# Altium integrated library NSC LDO.IntLib: 1202 symbols (part 16 of 27)
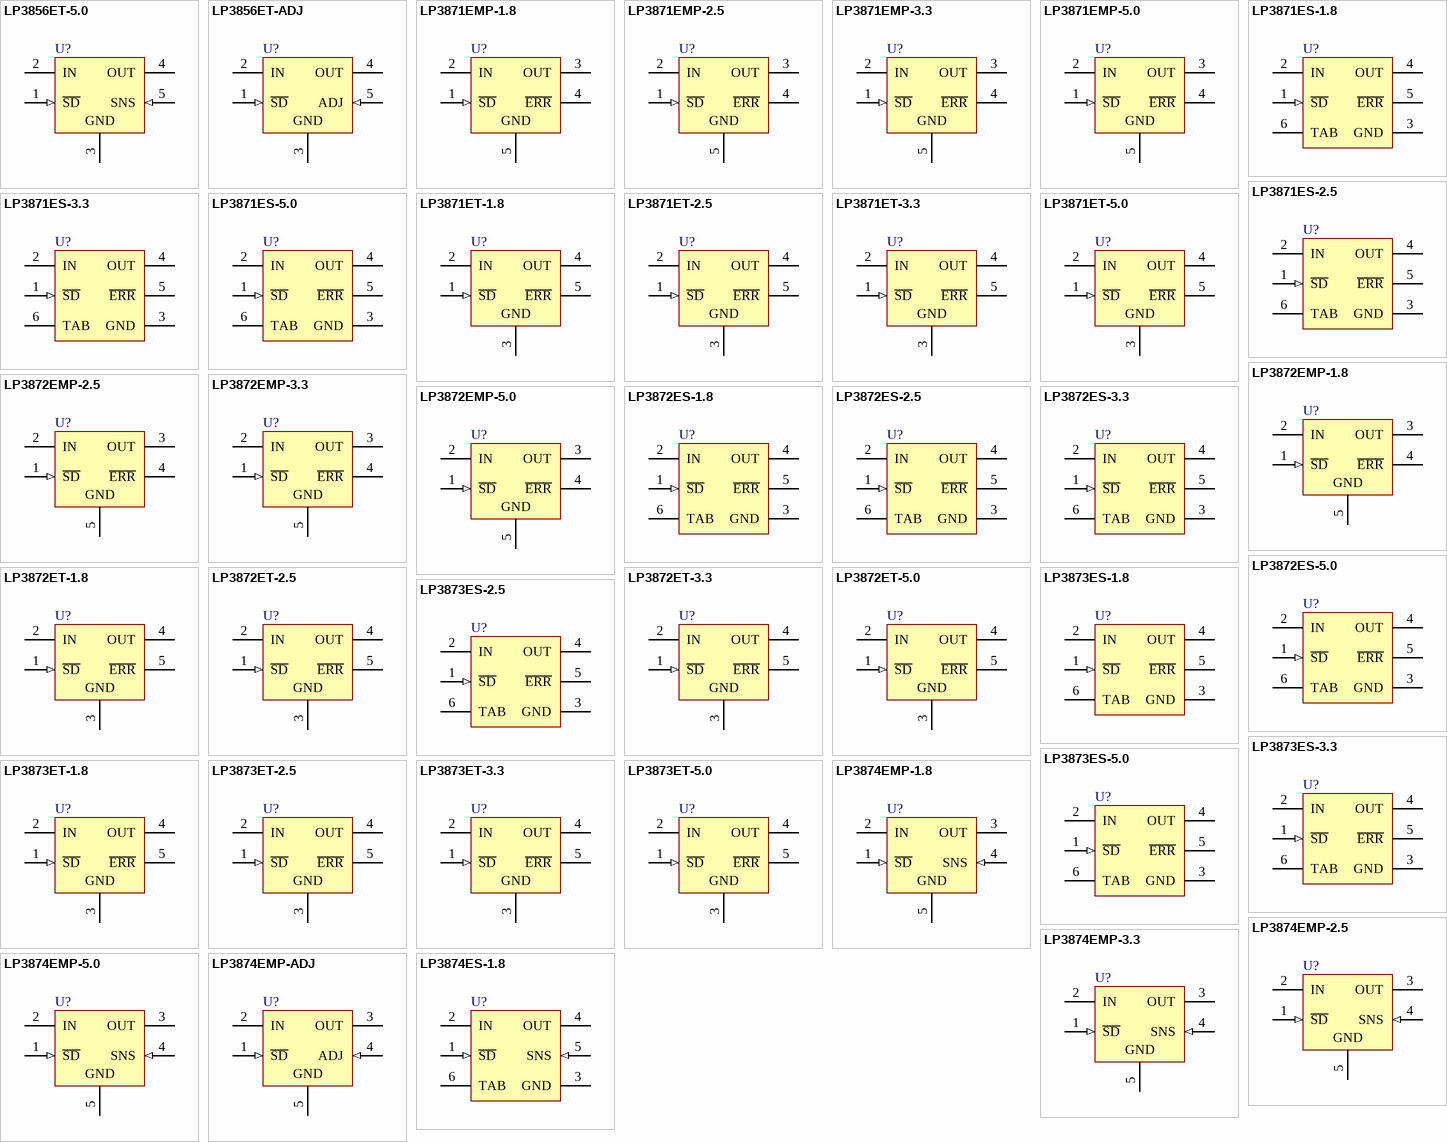
[diagram p45: symbols LP3856ET-5.0 to LP3874ES-1.8]

## LP3856ET-5.0
designator U?
3A Fast Ultra Low Dropout Linear Regulator; PartNumber: LP3856ET-5.0; Manufacturer: National Semiconductor; CompType: LDO IC; PackageTopMarking: NSUZXYTTE#*LP3856ET*-5.0; Published: 4-Dec-2008; DatasheetVersion: Sep-2006; PackageVersion: revA, Oct-1989; PackageReference: T05D; Publisher: Altium Limited; PackageDescription: TO-220, Molded, Stagger Bend, 5 Lead; RoHS: Y; PinCount: 5; DigiKeyPartNumber: LP3856ET-5.0-ND; ComponentLink1Description: LP3856 Datasheet; ComponentLink1URL: http://www.national.com/ds/LP/LP3856.pdf; ComponentLink2Description: LP3856 Web Page; ComponentLink2URL: http://www.national.com/pf/LP/LP3856.html; ComponentLink3Description: T05D Package Page; ComponentLink3URL: http://www.national.com/packaging/folders/t05d.html
footprint T05D (TO, Thru-Hole, Vertical, Heatsink Mounted; 5 Bent Staggered Leads; Pitch 1.7 mm)
pins: 1 ~{SD} (in), 2 IN (power), 3 GND (power), 4 OUT (power), 5 SNS (in)

## LP3856ET-ADJ
designator U?
3A Fast Ultra Low Dropout Linear Regulator; PartNumber: LP3856ET-ADJ; Manufacturer: National Semiconductor; CompType: LDO IC; PackageTopMarking: NSUZXYTTE#*LP3856ET*-ADJ; Published: 4-Dec-2008; DatasheetVersion: Sep-2006; PackageVersion: revA, Oct-1989; PackageReference: T05D; Publisher: Altium Limited; PackageDescription: TO-220, Molded, Stagger Bend, 5 Lead; RoHS: Y; PinCount: 5; DigiKeyPartNumber: LP3856ET-ADJ-ND; ComponentLink1Description: LP3856-ADJ Datasheet; ComponentLink1URL: http://www.national.com/ds/LP/LP3856-ADJ.pdf; ComponentLink2Description: LP3856-ADJ Web Page; ComponentLink2URL: http://www.national.com/pf/LP/LP3856-ADJ.html; ComponentLink3Description: T05D Package Page; ComponentLink3URL: http://www.national.com/packaging/folders/t05d.html
footprint T05D (TO, Thru-Hole, Vertical, Heatsink Mounted; 5 Bent Staggered Leads; Pitch 1.7 mm)
pins: 1 ~{SD} (in), 2 IN (power), 3 GND (power), 4 OUT (power), 5 ADJ (in)

## LP3871EMP-1.8
designator U?
0.8A Fast Ultra Low Dropout Linear Regulators; PartNumber: LP3871EMP-1.8; Manufacturer: National Semiconductor; CompType: LDO IC; PackageTopMarking: XYTT*LH6B; Published: 4-Dec-2008; DatasheetVersion: Sep-2006; PackageVersion: revA, Jan-2000; PackageReference: MP05A; Publisher: Altium Limited; PackageDescription: Moldec SOT-223, 6.50 x 3.56 x 1.6mm Body, 5 Lead, 1.5mm Pitch; RoHS: Y; PinCount: 5; DigiKeyPartNumber: LP3871EMP-1.8CT-ND; Code_JEDEC: TO-261-AB; Code_IPC: SOT223-5; ComponentLink1Description: LP3871 Datasheet; ComponentLink1URL: http://www.national.com/ds/LP/LP3871.pdf; ComponentLink2Description: LP3871 Web Page; ComponentLink2URL: http://www.national.com/pf/LP/LP3871.html; ComponentLink3Description: MP05A Package Page; ComponentLink3URL: http://www.national.com/packaging/folders/mp05a.html
footprint MP05A_N (SOT223, 5-Leads, Body 6.5x3.5mm, Pitch 1.5mm, Lead Span 7mm, IPC Medium Density)
footprint MP05A_L (SOT223, 5-Leads, Body 6.5x3.5mm, Pitch 1.5mm, Lead Span 7mm, IPC High Density)
footprint MP05A_M (SOT223, 5-Leads, Body 6.5x3.5mm, Pitch 1.5mm, Lead Span 7mm, IPC Low Density)
pins: 1 ~{SD} (in), 2 IN (power), 3 OUT (power), 4 ~{ERR} (oc), 5 GND (power)

## LP3871EMP-2.5
designator U?
0.8A Fast Ultra Low Dropout Linear Regulators; PartNumber: LP3871EMP-2.5; Manufacturer: National Semiconductor; CompType: LDO IC; PackageTopMarking: XYTT*LH7B; Published: 4-Dec-2008; DatasheetVersion: Sep-2006; PackageVersion: revA, Jan-2000; PackageReference: MP05A; Publisher: Altium Limited; PackageDescription: Moldec SOT-223, 6.50 x 3.56 x 1.6mm Body, 5 Lead, 1.5mm Pitch; RoHS: Y; PinCount: 5; DigiKeyPartNumber: LP3871EMP-2.5CT-ND; Code_JEDEC: TO-261-AB; Code_IPC: SOT223-5; ComponentLink1Description: LP3871 Datasheet; ComponentLink1URL: http://www.national.com/ds/LP/LP3871.pdf; ComponentLink2Description: LP3871 Web Page; ComponentLink2URL: http://www.national.com/pf/LP/LP3871.html; ComponentLink3Description: MP05A Package Page; ComponentLink3URL: http://www.national.com/packaging/folders/mp05a.html
footprint MP05A_N (SOT223, 5-Leads, Body 6.5x3.5mm, Pitch 1.5mm, Lead Span 7mm, IPC Medium Density)
footprint MP05A_L (SOT223, 5-Leads, Body 6.5x3.5mm, Pitch 1.5mm, Lead Span 7mm, IPC High Density)
footprint MP05A_M (SOT223, 5-Leads, Body 6.5x3.5mm, Pitch 1.5mm, Lead Span 7mm, IPC Low Density)
pins: 1 ~{SD} (in), 2 IN (power), 3 OUT (power), 4 ~{ERR} (oc), 5 GND (power)

## LP3871EMP-3.3
designator U?
0.8A Fast Ultra Low Dropout Linear Regulators; PartNumber: LP3871EMP-3.3; Manufacturer: National Semiconductor; CompType: LDO IC; PackageTopMarking: XYTT*LH8B; Published: 4-Dec-2008; DatasheetVersion: Sep-2006; PackageVersion: revA, Jan-2000; PackageReference: MP05A; Publisher: Altium Limited; PackageDescription: Moldec SOT-223, 6.50 x 3.56 x 1.6mm Body, 5 Lead, 1.5mm Pitch; RoHS: Y; PinCount: 5; DigiKeyPartNumber: LP3871EMP-3.3CT-ND; Code_JEDEC: TO-261-AB; Code_IPC: SOT223-5; ComponentLink1Description: LP3871 Datasheet; ComponentLink1URL: http://www.national.com/ds/LP/LP3871.pdf; ComponentLink2Description: LP3871 Web Page; ComponentLink2URL: http://www.national.com/pf/LP/LP3871.html; ComponentLink3Description: MP05A Package Page; ComponentLink3URL: http://www.national.com/packaging/folders/mp05a.html
footprint MP05A_N (SOT223, 5-Leads, Body 6.5x3.5mm, Pitch 1.5mm, Lead Span 7mm, IPC Medium Density)
footprint MP05A_L (SOT223, 5-Leads, Body 6.5x3.5mm, Pitch 1.5mm, Lead Span 7mm, IPC High Density)
footprint MP05A_M (SOT223, 5-Leads, Body 6.5x3.5mm, Pitch 1.5mm, Lead Span 7mm, IPC Low Density)
pins: 1 ~{SD} (in), 2 IN (power), 3 OUT (power), 4 ~{ERR} (oc), 5 GND (power)

## LP3871EMP-5.0
designator U?
0.8A Fast Ultra Low Dropout Linear Regulators; PartNumber: LP3871EMP-5.0; Manufacturer: National Semiconductor; CompType: LDO IC; PackageTopMarking: XYTT*LH9B; Published: 4-Dec-2008; DatasheetVersion: Sep-2006; PackageVersion: revA, Jan-2000; PackageReference: MP05A; Publisher: Altium Limited; PackageDescription: Moldec SOT-223, 6.50 x 3.56 x 1.6mm Body, 5 Lead, 1.5mm Pitch; RoHS: Y; PinCount: 5; DigiKeyPartNumber: LP3871EMP-5.0CT-ND; Code_JEDEC: TO-261-AB; Code_IPC: SOT223-5; ComponentLink1Description: LP3871 Datasheet; ComponentLink1URL: http://www.national.com/ds/LP/LP3871.pdf; ComponentLink2Description: LP3871 Web Page; ComponentLink2URL: http://www.national.com/pf/LP/LP3871.html; ComponentLink3Description: MP05A Package Page; ComponentLink3URL: http://www.national.com/packaging/folders/mp05a.html
footprint MP05A_N (SOT223, 5-Leads, Body 6.5x3.5mm, Pitch 1.5mm, Lead Span 7mm, IPC Medium Density)
footprint MP05A_L (SOT223, 5-Leads, Body 6.5x3.5mm, Pitch 1.5mm, Lead Span 7mm, IPC High Density)
footprint MP05A_M (SOT223, 5-Leads, Body 6.5x3.5mm, Pitch 1.5mm, Lead Span 7mm, IPC Low Density)
pins: 1 ~{SD} (in), 2 IN (power), 3 OUT (power), 4 ~{ERR} (oc), 5 GND (power)

## LP3871ES-1.8
designator U?
0.8A Fast Ultra Low Dropout Linear Regulators; PartNumber: LP3871ES-1.8; Manufacturer: National Semiconductor; CompType: LDO IC; PackageTopMarking: NSUZXYTTE#*LP3871ES*-1.8; Published: 4-Dec-2008; DatasheetVersion: Sep-2006; PackageVersion: revD, Apr-2005; PackageReference: TS5B; Publisher: Altium Limited; PackageDescription: TO-263, Molded, .400 x .390 x .180in, 5 Lead, .067in Pitch, Surface Mount; RoHS: Y; PinCount: 5; DigiKeyPartNumber: LP3871ES-1.8-ND; Code_JEDEC: MO-169-AB; ComponentLink1Description: LP3871 Datasheet; ComponentLink1URL: http://www.national.com/ds/LP/LP3871.pdf; ComponentLink2Description: LP3871 Web Page; ComponentLink2URL: http://www.national.com/pf/LP/LP3871.html; ComponentLink3Description: TS5B Package Page; ComponentLink3URL: http://www.national.com/packaging/folders/ts5b.html
footprint TS5B_N (D2-PAK, 6-Leads, Body 8.6x10.2mm, Pitch 1.7mm, Lead Span 14.1mm, IPC Medium Density)
footprint TS5B_L (D2-PAK, 6-Leads, Body 8.6x10.2mm, Pitch 1.7mm, Lead Span 14.1mm, IPC High Density)
footprint TS5B_M (D2-PAK, 6-Leads, Body 8.6x10.2mm, Pitch 1.7mm, Lead Span 14.1mm, IPC Low Density)
pins: 1 ~{SD} (in), 2 IN (power), 3 GND (power), 4 OUT (power), 5 ~{ERR} (oc), 6 TAB (power)

## LP3871ES-2.5
designator U?
0.8A Fast Ultra Low Dropout Linear Regulators; PartNumber: LP3871ES-2.5; Manufacturer: National Semiconductor; CompType: LDO IC; PackageTopMarking: NSUZXYTTE#*LP3871ES*-2.5; Published: 4-Dec-2008; DatasheetVersion: Sep-2006; PackageVersion: revD, Apr-2005; PackageReference: TS5B; Publisher: Altium Limited; PackageDescription: TO-263, Molded, .400 x .390 x .180in, 5 Lead, .067in Pitch, Surface Mount; RoHS: Y; PinCount: 5; DigiKeyPartNumber: LP3871ES-2.5-ND; Code_JEDEC: MO-169-AB; ComponentLink1Description: LP3871 Datasheet; ComponentLink1URL: http://www.national.com/ds/LP/LP3871.pdf; ComponentLink2Description: LP3871 Web Page; ComponentLink2URL: http://www.national.com/pf/LP/LP3871.html; ComponentLink3Description: TS5B Package Page; ComponentLink3URL: http://www.national.com/packaging/folders/ts5b.html
footprint TS5B_N (D2-PAK, 6-Leads, Body 8.6x10.2mm, Pitch 1.7mm, Lead Span 14.1mm, IPC Medium Density)
footprint TS5B_L (D2-PAK, 6-Leads, Body 8.6x10.2mm, Pitch 1.7mm, Lead Span 14.1mm, IPC High Density)
footprint TS5B_M (D2-PAK, 6-Leads, Body 8.6x10.2mm, Pitch 1.7mm, Lead Span 14.1mm, IPC Low Density)
pins: 1 ~{SD} (in), 2 IN (power), 3 GND (power), 4 OUT (power), 5 ~{ERR} (oc), 6 TAB (power)

## LP3871ES-3.3
designator U?
0.8A Fast Ultra Low Dropout Linear Regulators; PartNumber: LP3871ES-3.3; Manufacturer: National Semiconductor; CompType: LDO IC; PackageTopMarking: NSUZXYTTE#*LP3871ES*-3.3; Published: 4-Dec-2008; DatasheetVersion: Sep-2006; PackageVersion: revD, Apr-2005; PackageReference: TS5B; Publisher: Altium Limited; PackageDescription: TO-263, Molded, .400 x .390 x .180in, 5 Lead, .067in Pitch, Surface Mount; RoHS: Y; PinCount: 5; DigiKeyPartNumber: LP3871ES-3.3-ND; Code_JEDEC: MO-169-AB; ComponentLink1Description: LP3871 Datasheet; ComponentLink1URL: http://www.national.com/ds/LP/LP3871.pdf; ComponentLink2Description: LP3871 Web Page; ComponentLink2URL: http://www.national.com/pf/LP/LP3871.html; ComponentLink3Description: TS5B Package Page; ComponentLink3URL: http://www.national.com/packaging/folders/ts5b.html
footprint TS5B_N (D2-PAK, 6-Leads, Body 8.6x10.2mm, Pitch 1.7mm, Lead Span 14.1mm, IPC Medium Density)
footprint TS5B_L (D2-PAK, 6-Leads, Body 8.6x10.2mm, Pitch 1.7mm, Lead Span 14.1mm, IPC High Density)
footprint TS5B_M (D2-PAK, 6-Leads, Body 8.6x10.2mm, Pitch 1.7mm, Lead Span 14.1mm, IPC Low Density)
pins: 1 ~{SD} (in), 2 IN (power), 3 GND (power), 4 OUT (power), 5 ~{ERR} (oc), 6 TAB (power)

## LP3871ES-5.0
designator U?
0.8A Fast Ultra Low Dropout Linear Regulators; PartNumber: LP3871ES-5.0; Manufacturer: National Semiconductor; CompType: LDO IC; PackageTopMarking: NSUZXYTTE#*LP3871ES*-5.0; Published: 4-Dec-2008; DatasheetVersion: Sep-2006; PackageVersion: revD, Apr-2005; PackageReference: TS5B; Publisher: Altium Limited; PackageDescription: TO-263, Molded, .400 x .390 x .180in, 5 Lead, .067in Pitch, Surface Mount; RoHS: Y; PinCount: 5; DigiKeyPartNumber: LP3871ES-5.0-ND; Code_JEDEC: MO-169-AB; ComponentLink1Description: LP3871 Datasheet; ComponentLink1URL: http://www.national.com/ds/LP/LP3871.pdf; ComponentLink2Description: LP3871 Web Page; ComponentLink2URL: http://www.national.com/pf/LP/LP3871.html; ComponentLink3Description: TS5B Package Page; ComponentLink3URL: http://www.national.com/packaging/folders/ts5b.html
footprint TS5B_N (D2-PAK, 6-Leads, Body 8.6x10.2mm, Pitch 1.7mm, Lead Span 14.1mm, IPC Medium Density)
footprint TS5B_L (D2-PAK, 6-Leads, Body 8.6x10.2mm, Pitch 1.7mm, Lead Span 14.1mm, IPC High Density)
footprint TS5B_M (D2-PAK, 6-Leads, Body 8.6x10.2mm, Pitch 1.7mm, Lead Span 14.1mm, IPC Low Density)
pins: 1 ~{SD} (in), 2 IN (power), 3 GND (power), 4 OUT (power), 5 ~{ERR} (oc), 6 TAB (power)

## LP3871ET-1.8
designator U?
0.8A Fast Ultra Low Dropout Linear Regulators; PartNumber: LP3871ET-1.8; Manufacturer: National Semiconductor; CompType: LDO IC; PackageTopMarking: NSUZXYTTE#*LP3871ET*-1.8; Published: 4-Dec-2008; DatasheetVersion: Sep-2006; PackageVersion: revA, Oct-1989; PackageReference: T05D; Publisher: Altium Limited; PackageDescription: TO-220, Molded, Stagger Bend, 5 Lead; RoHS: Y; PinCount: 5; DigiKeyPartNumber: LP3871ET-1.8-ND; ComponentLink1Description: LP3871 Datasheet; ComponentLink1URL: http://www.national.com/ds/LP/LP3871.pdf; ComponentLink2Description: LP3871 Web Page; ComponentLink2URL: http://www.national.com/pf/LP/LP3871.html; ComponentLink3Description: T05D Package Page; ComponentLink3URL: http://www.national.com/packaging/folders/t05d.html
footprint T05D (TO, Thru-Hole, Vertical, Heatsink Mounted; 5 Bent Staggered Leads; Pitch 1.7 mm)
pins: 1 ~{SD} (in), 2 IN (power), 3 GND (power), 4 OUT (power), 5 ~{ERR} (oc)

## LP3871ET-2.5
designator U?
0.8A Fast Ultra Low Dropout Linear Regulators; PartNumber: LP3871ET-2.5; Manufacturer: National Semiconductor; CompType: LDO IC; PackageTopMarking: NSUZXYTTE#*LP3871ET*-2.5; Published: 4-Dec-2008; DatasheetVersion: Sep-2006; PackageVersion: revA, Oct-1989; PackageReference: T05D; Publisher: Altium Limited; PackageDescription: TO-220, Molded, Stagger Bend, 5 Lead; RoHS: Y; PinCount: 5; DigiKeyPartNumber: LP3871ET-2.5-ND; ComponentLink1Description: LP3871 Datasheet; ComponentLink1URL: http://www.national.com/ds/LP/LP3871.pdf; ComponentLink2Description: LP3871 Web Page; ComponentLink2URL: http://www.national.com/pf/LP/LP3871.html; ComponentLink3Description: T05D Package Page; ComponentLink3URL: http://www.national.com/packaging/folders/t05d.html
footprint T05D (TO, Thru-Hole, Vertical, Heatsink Mounted; 5 Bent Staggered Leads; Pitch 1.7 mm)
pins: 1 ~{SD} (in), 2 IN (power), 3 GND (power), 4 OUT (power), 5 ~{ERR} (oc)

## LP3871ET-3.3
designator U?
0.8A Fast Ultra Low Dropout Linear Regulators; PartNumber: LP3871ET-3.3; Manufacturer: National Semiconductor; CompType: LDO IC; PackageTopMarking: NSUZXYTTE#*LP3871ET*-3.3; Published: 4-Dec-2008; DatasheetVersion: Sep-2006; PackageVersion: revA, Oct-1989; PackageReference: T05D; Publisher: Altium Limited; PackageDescription: TO-220, Molded, Stagger Bend, 5 Lead; RoHS: Y; PinCount: 5; DigiKeyPartNumber: LP3871ET-3.3-ND; ComponentLink1Description: LP3871 Datasheet; ComponentLink1URL: http://www.national.com/ds/LP/LP3871.pdf; ComponentLink2Description: LP3871 Web Page; ComponentLink2URL: http://www.national.com/pf/LP/LP3871.html; ComponentLink3Description: T05D Package Page; ComponentLink3URL: http://www.national.com/packaging/folders/t05d.html
footprint T05D (TO, Thru-Hole, Vertical, Heatsink Mounted; 5 Bent Staggered Leads; Pitch 1.7 mm)
pins: 1 ~{SD} (in), 2 IN (power), 3 GND (power), 4 OUT (power), 5 ~{ERR} (oc)

## LP3871ET-5.0
designator U?
0.8A Fast Ultra Low Dropout Linear Regulators; PartNumber: LP3871ET-5.0; Manufacturer: National Semiconductor; CompType: LDO IC; PackageTopMarking: NSUZXYTTE#*LP3871ET*-5.0; Published: 4-Dec-2008; DatasheetVersion: Sep-2006; PackageVersion: revA, Oct-1989; PackageReference: T05D; Publisher: Altium Limited; PackageDescription: TO-220, Molded, Stagger Bend, 5 Lead; RoHS: Y; PinCount: 5; DigiKeyPartNumber: LP3871ET-5.0-ND; ComponentLink1Description: LP3871 Datasheet; ComponentLink1URL: http://www.national.com/ds/LP/LP3871.pdf; ComponentLink2Description: LP3871 Web Page; ComponentLink2URL: http://www.national.com/pf/LP/LP3871.html; ComponentLink3Description: T05D Package Page; ComponentLink3URL: http://www.national.com/packaging/folders/t05d.html
footprint T05D (TO, Thru-Hole, Vertical, Heatsink Mounted; 5 Bent Staggered Leads; Pitch 1.7 mm)
pins: 1 ~{SD} (in), 2 IN (power), 3 GND (power), 4 OUT (power), 5 ~{ERR} (oc)

## LP3872EMP-1.8
designator U?
1.5A Fast Ultra Low Dropout Linear Regulator; PartNumber: LP3872EMP-1.8; Manufacturer: National Semiconductor; CompType: LDO IC; PackageTopMarking: XYTT*LHAB; Published: 4-Dec-2008; DatasheetVersion: Sep-2006; PackageVersion: revA, Jan-2000; PackageReference: MP05A; Publisher: Altium Limited; PackageDescription: Moldec SOT-223, 6.50 x 3.56 x 1.6mm Body, 5 Lead, 1.5mm Pitch; RoHS: Y; PinCount: 5; DigiKeyPartNumber: LP3872EMP-1.8CT-ND; Code_JEDEC: TO-261-AB; Code_IPC: SOT223-5; ComponentLink1Description: LP3872 Datasheet; ComponentLink1URL: http://www.national.com/ds/LP/LP3872.pdf; ComponentLink2Description: LP3872 Web Page; ComponentLink2URL: http://www.national.com/pf/LP/LP3872.html; ComponentLink3Description: MP05A Package Page; ComponentLink3URL: http://www.national.com/packaging/folders/mp05a.html
footprint MP05A_N (SOT223, 5-Leads, Body 6.5x3.5mm, Pitch 1.5mm, Lead Span 7mm, IPC Medium Density)
footprint MP05A_L (SOT223, 5-Leads, Body 6.5x3.5mm, Pitch 1.5mm, Lead Span 7mm, IPC High Density)
footprint MP05A_M (SOT223, 5-Leads, Body 6.5x3.5mm, Pitch 1.5mm, Lead Span 7mm, IPC Low Density)
pins: 1 ~{SD} (in), 2 IN (power), 3 OUT (power), 4 ~{ERR} (oc), 5 GND (power)

## LP3872EMP-2.5
designator U?
1.5A Fast Ultra Low Dropout Linear Regulator; PartNumber: LP3872EMP-2.5; Manufacturer: National Semiconductor; CompType: LDO IC; PackageTopMarking: XYTT*LHBB; Published: 4-Dec-2008; DatasheetVersion: Sep-2006; PackageVersion: revA, Jan-2000; PackageReference: MP05A; Publisher: Altium Limited; PackageDescription: Moldec SOT-223, 6.50 x 3.56 x 1.6mm Body, 5 Lead, 1.5mm Pitch; RoHS: Y; PinCount: 5; DigiKeyPartNumber: LP3872EMP-2.5CT-ND; Code_JEDEC: TO-261-AB; Code_IPC: SOT223-5; ComponentLink1Description: LP3872 Datasheet; ComponentLink1URL: http://www.national.com/ds/LP/LP3872.pdf; ComponentLink2Description: LP3872 Web Page; ComponentLink2URL: http://www.national.com/pf/LP/LP3872.html; ComponentLink3Description: MP05A Package Page; ComponentLink3URL: http://www.national.com/packaging/folders/mp05a.html
footprint MP05A_N (SOT223, 5-Leads, Body 6.5x3.5mm, Pitch 1.5mm, Lead Span 7mm, IPC Medium Density)
footprint MP05A_L (SOT223, 5-Leads, Body 6.5x3.5mm, Pitch 1.5mm, Lead Span 7mm, IPC High Density)
footprint MP05A_M (SOT223, 5-Leads, Body 6.5x3.5mm, Pitch 1.5mm, Lead Span 7mm, IPC Low Density)
pins: 1 ~{SD} (in), 2 IN (power), 3 OUT (power), 4 ~{ERR} (oc), 5 GND (power)

## LP3872EMP-3.3
designator U?
1.5A Fast Ultra Low Dropout Linear Regulator; PartNumber: LP3872EMP-3.3; Manufacturer: National Semiconductor; CompType: LDO IC; PackageTopMarking: XYTT*LHCB; Published: 4-Dec-2008; DatasheetVersion: Sep-2006; PackageVersion: revA, Jan-2000; PackageReference: MP05A; Publisher: Altium Limited; PackageDescription: Moldec SOT-223, 6.50 x 3.56 x 1.6mm Body, 5 Lead, 1.5mm Pitch; RoHS: Y; PinCount: 5; DigiKeyPartNumber: LP3872EMP-3.3CT-ND; Code_JEDEC: TO-261-AB; Code_IPC: SOT223-5; ComponentLink1Description: LP3872 Datasheet; ComponentLink1URL: http://www.national.com/ds/LP/LP3872.pdf; ComponentLink2Description: LP3872 Web Page; ComponentLink2URL: http://www.national.com/pf/LP/LP3872.html; ComponentLink3Description: MP05A Package Page; ComponentLink3URL: http://www.national.com/packaging/folders/mp05a.html
footprint MP05A_N (SOT223, 5-Leads, Body 6.5x3.5mm, Pitch 1.5mm, Lead Span 7mm, IPC Medium Density)
footprint MP05A_L (SOT223, 5-Leads, Body 6.5x3.5mm, Pitch 1.5mm, Lead Span 7mm, IPC High Density)
footprint MP05A_M (SOT223, 5-Leads, Body 6.5x3.5mm, Pitch 1.5mm, Lead Span 7mm, IPC Low Density)
pins: 1 ~{SD} (in), 2 IN (power), 3 OUT (power), 4 ~{ERR} (oc), 5 GND (power)

## LP3872EMP-5.0
designator U?
1.5A Fast Ultra Low Dropout Linear Regulator; PartNumber: LP3872EMP-5.0; Manufacturer: National Semiconductor; CompType: LDO IC; PackageTopMarking: XYTT*LHDB; Published: 4-Dec-2008; DatasheetVersion: Sep-2006; PackageVersion: revA, Jan-2000; PackageReference: MP05A; Publisher: Altium Limited; PackageDescription: Moldec SOT-223, 6.50 x 3.56 x 1.6mm Body, 5 Lead, 1.5mm Pitch; RoHS: O; PinCount: 5; DigiKeyPartNumber: LP3872EMP-5.0CT-ND; Code_JEDEC: TO-261-AB; Code_IPC: SOT223-5; ComponentLink1Description: LP3872 Datasheet; ComponentLink1URL: http://www.national.com/ds/LP/LP3872.pdf; ComponentLink2Description: LP3872 Web Page; ComponentLink2URL: http://www.national.com/pf/LP/LP3872.html; ComponentLink3Description: MP05A Package Page; ComponentLink3URL: http://www.national.com/packaging/folders/mp05a.html
footprint MP05A_N (SOT223, 5-Leads, Body 6.5x3.5mm, Pitch 1.5mm, Lead Span 7mm, IPC Medium Density)
footprint MP05A_L (SOT223, 5-Leads, Body 6.5x3.5mm, Pitch 1.5mm, Lead Span 7mm, IPC High Density)
footprint MP05A_M (SOT223, 5-Leads, Body 6.5x3.5mm, Pitch 1.5mm, Lead Span 7mm, IPC Low Density)
pins: 1 ~{SD} (in), 2 IN (power), 3 OUT (power), 4 ~{ERR} (oc), 5 GND (power)

## LP3872ES-1.8
designator U?
1.5A Fast Ultra Low Dropout Linear Regulator; PartNumber: LP3872ES-1.8; Manufacturer: National Semiconductor; CompType: LDO IC; PackageTopMarking: NSUZXYTTE#*LP3872ES*-1.8; Published: 4-Dec-2008; DatasheetVersion: Sep-2006; PackageVersion: revD, Apr-2005; PackageReference: TS5B; Publisher: Altium Limited; PackageDescription: TO-263, Molded, .400 x .390 x .180in, 5 Lead, .067in Pitch, Surface Mount; RoHS: Y; PinCount: 5; DigiKeyPartNumber: LP3872ES-1.8-ND; Code_JEDEC: MO-169-AB; ComponentLink1Description: LP3872 Datasheet; ComponentLink1URL: http://www.national.com/ds/LP/LP3872.pdf; ComponentLink2Description: LP3872 Web Page; ComponentLink2URL: http://www.national.com/pf/LP/LP3872.html; ComponentLink3Description: TS5B Package Page; ComponentLink3URL: http://www.national.com/packaging/folders/ts5b.html
footprint TS5B_N (D2-PAK, 6-Leads, Body 8.6x10.2mm, Pitch 1.7mm, Lead Span 14.1mm, IPC Medium Density)
footprint TS5B_L (D2-PAK, 6-Leads, Body 8.6x10.2mm, Pitch 1.7mm, Lead Span 14.1mm, IPC High Density)
footprint TS5B_M (D2-PAK, 6-Leads, Body 8.6x10.2mm, Pitch 1.7mm, Lead Span 14.1mm, IPC Low Density)
pins: 1 ~{SD} (in), 2 IN (power), 3 GND (power), 4 OUT (power), 5 ~{ERR} (oc), 6 TAB (power)

## LP3872ES-2.5
designator U?
1.5A Fast Ultra Low Dropout Linear Regulator; PartNumber: LP3872ES-2.5; Manufacturer: National Semiconductor; CompType: LDO IC; PackageTopMarking: NSUZXYTTE#*LP3872ES*-2.5; Published: 4-Dec-2008; DatasheetVersion: Sep-2006; PackageVersion: revD, Apr-2005; PackageReference: TS5B; Publisher: Altium Limited; PackageDescription: TO-263, Molded, .400 x .390 x .180in, 5 Lead, .067in Pitch, Surface Mount; RoHS: O; PinCount: 5; DigiKeyPartNumber: LP3872ES-2.5-ND; Code_JEDEC: MO-169-AB; ComponentLink1Description: LP3872 Datasheet; ComponentLink1URL: http://www.national.com/ds/LP/LP3872.pdf; ComponentLink2Description: LP3872 Web Page; ComponentLink2URL: http://www.national.com/pf/LP/LP3872.html; ComponentLink3Description: TS5B Package Page; ComponentLink3URL: http://www.national.com/packaging/folders/ts5b.html
footprint TS5B_N (D2-PAK, 6-Leads, Body 8.6x10.2mm, Pitch 1.7mm, Lead Span 14.1mm, IPC Medium Density)
footprint TS5B_L (D2-PAK, 6-Leads, Body 8.6x10.2mm, Pitch 1.7mm, Lead Span 14.1mm, IPC High Density)
footprint TS5B_M (D2-PAK, 6-Leads, Body 8.6x10.2mm, Pitch 1.7mm, Lead Span 14.1mm, IPC Low Density)
pins: 1 ~{SD} (in), 2 IN (power), 3 GND (power), 4 OUT (power), 5 ~{ERR} (oc), 6 TAB (power)

## LP3872ES-3.3
designator U?
1.5A Fast Ultra Low Dropout Linear Regulator; PartNumber: LP3872ES-3.3; Manufacturer: National Semiconductor; CompType: LDO IC; PackageTopMarking: NSUZXYTTE#*LP3872ES*-3.3; Published: 4-Dec-2008; DatasheetVersion: Sep-2006; PackageVersion: revD, Apr-2005; PackageReference: TS5B; Publisher: Altium Limited; PackageDescription: TO-263, Molded, .400 x .390 x .180in, 5 Lead, .067in Pitch, Surface Mount; RoHS: Y; PinCount: 5; DigiKeyPartNumber: LP3872ES-3.3-ND; Code_JEDEC: MO-169-AB; ComponentLink1Description: LP3872 Datasheet; ComponentLink1URL: http://www.national.com/ds/LP/LP3872.pdf; ComponentLink2Description: LP3872 Web Page; ComponentLink2URL: http://www.national.com/pf/LP/LP3872.html; ComponentLink3Description: TS5B Package Page; ComponentLink3URL: http://www.national.com/packaging/folders/ts5b.html
footprint TS5B_N (D2-PAK, 6-Leads, Body 8.6x10.2mm, Pitch 1.7mm, Lead Span 14.1mm, IPC Medium Density)
footprint TS5B_L (D2-PAK, 6-Leads, Body 8.6x10.2mm, Pitch 1.7mm, Lead Span 14.1mm, IPC High Density)
footprint TS5B_M (D2-PAK, 6-Leads, Body 8.6x10.2mm, Pitch 1.7mm, Lead Span 14.1mm, IPC Low Density)
pins: 1 ~{SD} (in), 2 IN (power), 3 GND (power), 4 OUT (power), 5 ~{ERR} (oc), 6 TAB (power)

## LP3872ES-5.0
designator U?
1.5A Fast Ultra Low Dropout Linear Regulator; PartNumber: LP3872ES-5.0; Manufacturer: National Semiconductor; CompType: LDO IC; PackageTopMarking: NSUZXYTTE#*LP3872ES*-5.0; Published: 4-Dec-2008; DatasheetVersion: Sep-2006; PackageVersion: revD, Apr-2005; PackageReference: TS5B; Publisher: Altium Limited; PackageDescription: TO-263, Molded, .400 x .390 x .180in, 5 Lead, .067in Pitch, Surface Mount; RoHS: O; PinCount: 5; DigiKeyPartNumber: LP3872ES-5.0-ND; Code_JEDEC: MO-169-AB; ComponentLink1Description: LP3872 Datasheet; ComponentLink1URL: http://www.national.com/ds/LP/LP3872.pdf; ComponentLink2Description: LP3872 Web Page; ComponentLink2URL: http://www.national.com/pf/LP/LP3872.html; ComponentLink3Description: TS5B Package Page; ComponentLink3URL: http://www.national.com/packaging/folders/ts5b.html
footprint TS5B_N (D2-PAK, 6-Leads, Body 8.6x10.2mm, Pitch 1.7mm, Lead Span 14.1mm, IPC Medium Density)
footprint TS5B_L (D2-PAK, 6-Leads, Body 8.6x10.2mm, Pitch 1.7mm, Lead Span 14.1mm, IPC High Density)
footprint TS5B_M (D2-PAK, 6-Leads, Body 8.6x10.2mm, Pitch 1.7mm, Lead Span 14.1mm, IPC Low Density)
pins: 1 ~{SD} (in), 2 IN (power), 3 GND (power), 4 OUT (power), 5 ~{ERR} (oc), 6 TAB (power)

## LP3872ET-1.8
designator U?
1.5A Fast Ultra Low Dropout Linear Regulator; PartNumber: LP3872ET-1.8; Manufacturer: National Semiconductor; CompType: LDO IC; PackageTopMarking: NSUZXYTTE#*LP3872ET*-1.8; Published: 4-Dec-2008; DatasheetVersion: Sep-2006; PackageVersion: revA, Oct-1989; PackageReference: T05D; Publisher: Altium Limited; PackageDescription: TO-220, Molded, Stagger Bend, 5 Lead; RoHS: Y; PinCount: 5; DigiKeyPartNumber: LP3872ET-1.8-ND; ComponentLink1Description: LP3872 Datasheet; ComponentLink1URL: http://www.national.com/ds/LP/LP3872.pdf; ComponentLink2Description: LP3872 Web Page; ComponentLink2URL: http://www.national.com/pf/LP/LP3872.html; ComponentLink3Description: T05D Package Page; ComponentLink3URL: http://www.national.com/packaging/folders/t05d.html
footprint T05D (TO, Thru-Hole, Vertical, Heatsink Mounted; 5 Bent Staggered Leads; Pitch 1.7 mm)
pins: 1 ~{SD} (in), 2 IN (power), 3 GND (power), 4 OUT (power), 5 ~{ERR} (oc)

## LP3872ET-2.5
designator U?
1.5A Fast Ultra Low Dropout Linear Regulator; PartNumber: LP3872ET-2.5; Manufacturer: National Semiconductor; CompType: LDO IC; PackageTopMarking: NSUZXYTTE#*LP3872ET*-2.5; Published: 4-Dec-2008; DatasheetVersion: Sep-2006; PackageVersion: revA, Oct-1989; PackageReference: T05D; Publisher: Altium Limited; PackageDescription: TO-220, Molded, Stagger Bend, 5 Lead; RoHS: Y; PinCount: 5; DigiKeyPartNumber: LP3872ET-2.5-ND; ComponentLink1Description: LP3872 Datasheet; ComponentLink1URL: http://www.national.com/ds/LP/LP3872.pdf; ComponentLink2Description: LP3872 Web Page; ComponentLink2URL: http://www.national.com/pf/LP/LP3872.html; ComponentLink3Description: T05D Package Page; ComponentLink3URL: http://www.national.com/packaging/folders/t05d.html
footprint T05D (TO, Thru-Hole, Vertical, Heatsink Mounted; 5 Bent Staggered Leads; Pitch 1.7 mm)
pins: 1 ~{SD} (in), 2 IN (power), 3 GND (power), 4 OUT (power), 5 ~{ERR} (oc)

## LP3872ET-3.3
designator U?
1.5A Fast Ultra Low Dropout Linear Regulator; PartNumber: LP3872ET-3.3; Manufacturer: National Semiconductor; CompType: LDO IC; PackageTopMarking: NSUZXYTTE#*LP3872ET*-3.3; Published: 4-Dec-2008; DatasheetVersion: Sep-2006; PackageVersion: revA, Oct-1989; PackageReference: T05D; Publisher: Altium Limited; PackageDescription: TO-220, Molded, Stagger Bend, 5 Lead; RoHS: O; PinCount: 5; DigiKeyPartNumber: LP3872ET-3.3-ND; ComponentLink1Description: LP3872 Datasheet; ComponentLink1URL: http://www.national.com/ds/LP/LP3872.pdf; ComponentLink2Description: LP3872 Web Page; ComponentLink2URL: http://www.national.com/pf/LP/LP3872.html; ComponentLink3Description: T05D Package Page; ComponentLink3URL: http://www.national.com/packaging/folders/t05d.html
footprint T05D (TO, Thru-Hole, Vertical, Heatsink Mounted; 5 Bent Staggered Leads; Pitch 1.7 mm)
pins: 1 ~{SD} (in), 2 IN (power), 3 GND (power), 4 OUT (power), 5 ~{ERR} (oc)

## LP3872ET-5.0
designator U?
1.5A Fast Ultra Low Dropout Linear Regulator; PartNumber: LP3872ET-5.0; Manufacturer: National Semiconductor; CompType: LDO IC; PackageTopMarking: NSUZXYTTE#*LP3872ET*-5.0; Published: 4-Dec-2008; DatasheetVersion: Sep-2006; PackageVersion: revA, Oct-1989; PackageReference: T05D; Publisher: Altium Limited; PackageDescription: TO-220, Molded, Stagger Bend, 5 Lead; RoHS: Y; PinCount: 5; DigiKeyPartNumber: LP3872ET-5.0-ND; ComponentLink1Description: LP3872 Datasheet; ComponentLink1URL: http://www.national.com/ds/LP/LP3872.pdf; ComponentLink2Description: LP3872 Web Page; ComponentLink2URL: http://www.national.com/pf/LP/LP3872.html; ComponentLink3Description: T05D Package Page; ComponentLink3URL: http://www.national.com/packaging/folders/t05d.html
footprint T05D (TO, Thru-Hole, Vertical, Heatsink Mounted; 5 Bent Staggered Leads; Pitch 1.7 mm)
pins: 1 ~{SD} (in), 2 IN (power), 3 GND (power), 4 OUT (power), 5 ~{ERR} (oc)

## LP3873ES-1.8
designator U?
3A Fast Ultra Low Dropout Linear Regulator; PartNumber: LP3873ES-1.8; Manufacturer: National Semiconductor; CompType: LDO IC; PackageTopMarking: NSUZXYTTE#*LP3873ES*-1.8; Published: 4-Dec-2008; DatasheetVersion: Sep-2006; PackageVersion: revD, Apr-2005; PackageReference: TS5B; Publisher: Altium Limited; PackageDescription: TO-263, Molded, .400 x .390 x .180in, 5 Lead, .067in Pitch, Surface Mount; RoHS: Y; PinCount: 5; DigiKeyPartNumber: LP3873ES-1.8-ND; Code_JEDEC: MO-169-AB; ComponentLink1Description: LP3873 Datasheet; ComponentLink1URL: http://www.national.com/ds/LP/LP3873.pdf; ComponentLink2Description: LP3873 Web Page; ComponentLink2URL: http://www.national.com/pf/LP/LP3873.html; ComponentLink3Description: TS5B Package Page; ComponentLink3URL: http://www.national.com/packaging/folders/ts5b.html
footprint TS5B_N (D2-PAK, 6-Leads, Body 8.6x10.2mm, Pitch 1.7mm, Lead Span 14.1mm, IPC Medium Density)
footprint TS5B_L (D2-PAK, 6-Leads, Body 8.6x10.2mm, Pitch 1.7mm, Lead Span 14.1mm, IPC High Density)
footprint TS5B_M (D2-PAK, 6-Leads, Body 8.6x10.2mm, Pitch 1.7mm, Lead Span 14.1mm, IPC Low Density)
pins: 1 ~{SD} (in), 2 IN (power), 3 GND (power), 4 OUT (power), 5 ~{ERR} (oc), 6 TAB (power)

## LP3873ES-2.5
designator U?
3A Fast Ultra Low Dropout Linear Regulator; PartNumber: LP3873ES-2.5; Manufacturer: National Semiconductor; CompType: LDO IC; PackageTopMarking: NSUZXYTTE#*LP3873ES*-2.5; Published: 4-Dec-2008; DatasheetVersion: Sep-2006; PackageVersion: revD, Apr-2005; PackageReference: TS5B; Publisher: Altium Limited; PackageDescription: TO-263, Molded, .400 x .390 x .180in, 5 Lead, .067in Pitch, Surface Mount; RoHS: Y; PinCount: 5; DigiKeyPartNumber: LP3873ES-2.5-ND; Code_JEDEC: MO-169-AB; ComponentLink1Description: LP3873 Datasheet; ComponentLink1URL: http://www.national.com/ds/LP/LP3873.pdf; ComponentLink2Description: LP3873 Web Page; ComponentLink2URL: http://www.national.com/pf/LP/LP3873.html; ComponentLink3Description: TS5B Package Page; ComponentLink3URL: http://www.national.com/packaging/folders/ts5b.html
footprint TS5B_N (D2-PAK, 6-Leads, Body 8.6x10.2mm, Pitch 1.7mm, Lead Span 14.1mm, IPC Medium Density)
footprint TS5B_L (D2-PAK, 6-Leads, Body 8.6x10.2mm, Pitch 1.7mm, Lead Span 14.1mm, IPC High Density)
footprint TS5B_M (D2-PAK, 6-Leads, Body 8.6x10.2mm, Pitch 1.7mm, Lead Span 14.1mm, IPC Low Density)
pins: 1 ~{SD} (in), 2 IN (power), 3 GND (power), 4 OUT (power), 5 ~{ERR} (oc), 6 TAB (power)

## LP3873ES-3.3
designator U?
3A Fast Ultra Low Dropout Linear Regulator; PartNumber: LP3873ES-3.3; Manufacturer: National Semiconductor; CompType: LDO IC; PackageTopMarking: NSUZXYTTE#*LP3873ES*-3.3; Published: 4-Dec-2008; DatasheetVersion: Sep-2006; PackageVersion: revD, Apr-2005; PackageReference: TS5B; Publisher: Altium Limited; PackageDescription: TO-263, Molded, .400 x .390 x .180in, 5 Lead, .067in Pitch, Surface Mount; RoHS: O; PinCount: 5; DigiKeyPartNumber: LP3873ES-3.3-ND; Code_JEDEC: MO-169-AB; ComponentLink1Description: LP3873 Datasheet; ComponentLink1URL: http://www.national.com/ds/LP/LP3873.pdf; ComponentLink2Description: LP3873 Web Page; ComponentLink2URL: http://www.national.com/pf/LP/LP3873.html; ComponentLink3Description: TS5B Package Page; ComponentLink3URL: http://www.national.com/packaging/folders/ts5b.html
footprint TS5B_N (D2-PAK, 6-Leads, Body 8.6x10.2mm, Pitch 1.7mm, Lead Span 14.1mm, IPC Medium Density)
footprint TS5B_L (D2-PAK, 6-Leads, Body 8.6x10.2mm, Pitch 1.7mm, Lead Span 14.1mm, IPC High Density)
footprint TS5B_M (D2-PAK, 6-Leads, Body 8.6x10.2mm, Pitch 1.7mm, Lead Span 14.1mm, IPC Low Density)
pins: 1 ~{SD} (in), 2 IN (power), 3 GND (power), 4 OUT (power), 5 ~{ERR} (oc), 6 TAB (power)

## LP3873ES-5.0
designator U?
3A Fast Ultra Low Dropout Linear Regulator; PartNumber: LP3873ES-5.0; Manufacturer: National Semiconductor; CompType: LDO IC; PackageTopMarking: NSUZXYTTE#*LP3873ES*-5.0; Published: 4-Dec-2008; DatasheetVersion: Sep-2006; PackageVersion: revD, Apr-2005; PackageReference: TS5B; Publisher: Altium Limited; PackageDescription: TO-263, Molded, .400 x .390 x .180in, 5 Lead, .067in Pitch, Surface Mount; RoHS: Y; PinCount: 5; DigiKeyPartNumber: LP3873ES-5.0-ND; Code_JEDEC: MO-169-AB; ComponentLink1Description: LP3873 Datasheet; ComponentLink1URL: http://www.national.com/ds/LP/LP3873.pdf; ComponentLink2Description: LP3873 Web Page; ComponentLink2URL: http://www.national.com/pf/LP/LP3873.html; ComponentLink3Description: TS5B Package Page; ComponentLink3URL: http://www.national.com/packaging/folders/ts5b.html
footprint TS5B_N (D2-PAK, 6-Leads, Body 8.6x10.2mm, Pitch 1.7mm, Lead Span 14.1mm, IPC Medium Density)
footprint TS5B_L (D2-PAK, 6-Leads, Body 8.6x10.2mm, Pitch 1.7mm, Lead Span 14.1mm, IPC High Density)
footprint TS5B_M (D2-PAK, 6-Leads, Body 8.6x10.2mm, Pitch 1.7mm, Lead Span 14.1mm, IPC Low Density)
pins: 1 ~{SD} (in), 2 IN (power), 3 GND (power), 4 OUT (power), 5 ~{ERR} (oc), 6 TAB (power)

## LP3873ET-1.8
designator U?
3A Fast Ultra Low Dropout Linear Regulator; PartNumber: LP3873ET-1.8; Manufacturer: National Semiconductor; CompType: LDO IC; PackageTopMarking: NSUZXYTTE#*LP3873ET*-1.8; Published: 4-Dec-2008; DatasheetVersion: Sep-2006; PackageVersion: revA, Oct-1989; PackageReference: T05D; Publisher: Altium Limited; PackageDescription: TO-220, Molded, Stagger Bend, 5 Lead; RoHS: Y; PinCount: 5; DigiKeyPartNumber: LP3873ET-1.8-ND; ComponentLink1Description: LP3873 Datasheet; ComponentLink1URL: http://www.national.com/ds/LP/LP3873.pdf; ComponentLink2Description: LP3873 Web Page; ComponentLink2URL: http://www.national.com/pf/LP/LP3873.html; ComponentLink3Description: T05D Package Page; ComponentLink3URL: http://www.national.com/packaging/folders/t05d.html
footprint T05D (TO, Thru-Hole, Vertical, Heatsink Mounted; 5 Bent Staggered Leads; Pitch 1.7 mm)
pins: 1 ~{SD} (in), 2 IN (power), 3 GND (power), 4 OUT (power), 5 ~{ERR} (oc)

## LP3873ET-2.5
designator U?
3A Fast Ultra Low Dropout Linear Regulator; PartNumber: LP3873ET-2.5; Manufacturer: National Semiconductor; CompType: LDO IC; PackageTopMarking: NSUZXYTTE#*LP3873ET*-2.5; Published: 4-Dec-2008; DatasheetVersion: Sep-2006; PackageVersion: revA, Oct-1989; PackageReference: T05D; Publisher: Altium Limited; PackageDescription: TO-220, Molded, Stagger Bend, 5 Lead; RoHS: Y; PinCount: 5; DigiKeyPartNumber: LP3873ET-2.5-ND; ComponentLink1Description: LP3873 Datasheet; ComponentLink1URL: http://www.national.com/ds/LP/LP3873.pdf; ComponentLink2Description: LP3873 Web Page; ComponentLink2URL: http://www.national.com/pf/LP/LP3873.html; ComponentLink3Description: T05D Package Page; ComponentLink3URL: http://www.national.com/packaging/folders/t05d.html
footprint T05D (TO, Thru-Hole, Vertical, Heatsink Mounted; 5 Bent Staggered Leads; Pitch 1.7 mm)
pins: 1 ~{SD} (in), 2 IN (power), 3 GND (power), 4 OUT (power), 5 ~{ERR} (oc)

## LP3873ET-3.3
designator U?
3A Fast Ultra Low Dropout Linear Regulator; PartNumber: LP3873ET-3.3; Manufacturer: National Semiconductor; CompType: LDO IC; PackageTopMarking: NSUZXYTTE#*LP3873ET*-3.3; Published: 4-Dec-2008; DatasheetVersion: Sep-2006; PackageVersion: revA, Oct-1989; PackageReference: T05D; Publisher: Altium Limited; PackageDescription: TO-220, Molded, Stagger Bend, 5 Lead; RoHS: Y; PinCount: 5; DigiKeyPartNumber: LP3873ET-3.3-ND; ComponentLink1Description: LP3873 Datasheet; ComponentLink1URL: http://www.national.com/ds/LP/LP3873.pdf; ComponentLink2Description: LP3873 Web Page; ComponentLink2URL: http://www.national.com/pf/LP/LP3873.html; ComponentLink3Description: T05D Package Page; ComponentLink3URL: http://www.national.com/packaging/folders/t05d.html
footprint T05D (TO, Thru-Hole, Vertical, Heatsink Mounted; 5 Bent Staggered Leads; Pitch 1.7 mm)
pins: 1 ~{SD} (in), 2 IN (power), 3 GND (power), 4 OUT (power), 5 ~{ERR} (oc)

## LP3873ET-5.0
designator U?
3A Fast Ultra Low Dropout Linear Regulator; PartNumber: LP3873ET-5.0; Manufacturer: National Semiconductor; CompType: LDO IC; PackageTopMarking: NSUZXYTTE#*LP3873ET*-5.0; Published: 4-Dec-2008; DatasheetVersion: Sep-2006; PackageVersion: revA, Oct-1989; PackageReference: T05D; Publisher: Altium Limited; PackageDescription: TO-220, Molded, Stagger Bend, 5 Lead; RoHS: Y; PinCount: 5; DigiKeyPartNumber: LP3873ET-5.0-ND; ComponentLink1Description: LP3873 Datasheet; ComponentLink1URL: http://www.national.com/ds/LP/LP3873.pdf; ComponentLink2Description: LP3873 Web Page; ComponentLink2URL: http://www.national.com/pf/LP/LP3873.html; ComponentLink3Description: T05D Package Page; ComponentLink3URL: http://www.national.com/packaging/folders/t05d.html
footprint T05D (TO, Thru-Hole, Vertical, Heatsink Mounted; 5 Bent Staggered Leads; Pitch 1.7 mm)
pins: 1 ~{SD} (in), 2 IN (power), 3 GND (power), 4 OUT (power), 5 ~{ERR} (oc)

## LP3874EMP-1.8
designator U?
0.8A Fast Ultra Low Dropout Linear Regulators; PartNumber: LP3874EMP-1.8; Manufacturer: National Semiconductor; CompType: LDO IC; PackageTopMarking: XYTT*LHEB; Published: 4-Dec-2008; DatasheetVersion: Sep-2006; PackageVersion: revA, Jan-2000; PackageReference: MP05A; Publisher: Altium Limited; PackageDescription: Moldec SOT-223, 6.50 x 3.56 x 1.6mm Body, 5 Lead, 1.5mm Pitch; RoHS: Y; PinCount: 5; DigiKeyPartNumber: LP3874EMP-1.8CT-ND; Code_JEDEC: TO-261-AB; Code_IPC: SOT223-5; ComponentLink1Description: LP3874 Datasheet; ComponentLink1URL: http://www.national.com/ds/LP/LP3874.pdf; ComponentLink2Description: LP3874 Web Page; ComponentLink2URL: http://www.national.com/pf/LP/LP3874.html; ComponentLink3Description: MP05A Package Page; ComponentLink3URL: http://www.national.com/packaging/folders/mp05a.html
footprint MP05A_N (SOT223, 5-Leads, Body 6.5x3.5mm, Pitch 1.5mm, Lead Span 7mm, IPC Medium Density)
footprint MP05A_L (SOT223, 5-Leads, Body 6.5x3.5mm, Pitch 1.5mm, Lead Span 7mm, IPC High Density)
footprint MP05A_M (SOT223, 5-Leads, Body 6.5x3.5mm, Pitch 1.5mm, Lead Span 7mm, IPC Low Density)
pins: 1 ~{SD} (in), 2 IN (power), 3 OUT (power), 4 SNS (in), 5 GND (power)

## LP3874EMP-2.5
designator U?
0.8A Fast Ultra Low Dropout Linear Regulators; PartNumber: LP3874EMP-2.5; Manufacturer: National Semiconductor; CompType: LDO IC; PackageTopMarking: XYTT*LHFB; Published: 4-Dec-2008; DatasheetVersion: Sep-2006; PackageVersion: revA, Jan-2000; PackageReference: MP05A; Publisher: Altium Limited; PackageDescription: Moldec SOT-223, 6.50 x 3.56 x 1.6mm Body, 5 Lead, 1.5mm Pitch; RoHS: Y; PinCount: 5; DigiKeyPartNumber: LP3874EMP-2.5CT-ND; Code_JEDEC: TO-261-AB; Code_IPC: SOT223-5; ComponentLink1Description: LP3874 Datasheet; ComponentLink1URL: http://www.national.com/ds/LP/LP3874.pdf; ComponentLink2Description: LP3874 Web Page; ComponentLink2URL: http://www.national.com/pf/LP/LP3874.html; ComponentLink3Description: MP05A Package Page; ComponentLink3URL: http://www.national.com/packaging/folders/mp05a.html
footprint MP05A_N (SOT223, 5-Leads, Body 6.5x3.5mm, Pitch 1.5mm, Lead Span 7mm, IPC Medium Density)
footprint MP05A_L (SOT223, 5-Leads, Body 6.5x3.5mm, Pitch 1.5mm, Lead Span 7mm, IPC High Density)
footprint MP05A_M (SOT223, 5-Leads, Body 6.5x3.5mm, Pitch 1.5mm, Lead Span 7mm, IPC Low Density)
pins: 1 ~{SD} (in), 2 IN (power), 3 OUT (power), 4 SNS (in), 5 GND (power)

## LP3874EMP-3.3
designator U?
0.8A Fast Ultra Low Dropout Linear Regulators; PartNumber: LP3874EMP-3.3; Manufacturer: National Semiconductor; CompType: LDO IC; PackageTopMarking: XYTT*LHHB; Published: 4-Dec-2008; DatasheetVersion: Sep-2006; PackageVersion: revA, Jan-2000; PackageReference: MP05A; Publisher: Altium Limited; PackageDescription: Moldec SOT-223, 6.50 x 3.56 x 1.6mm Body, 5 Lead, 1.5mm Pitch; RoHS: Y; PinCount: 5; DigiKeyPartNumber: LP3874EMP-3.3CT-ND; Code_JEDEC: TO-261-AB; Code_IPC: SOT223-5; ComponentLink1Description: LP3874 Datasheet; ComponentLink1URL: http://www.national.com/ds/LP/LP3874.pdf; ComponentLink2Description: LP3874 Web Page; ComponentLink2URL: http://www.national.com/pf/LP/LP3874.html; ComponentLink3Description: MP05A Package Page; ComponentLink3URL: http://www.national.com/packaging/folders/mp05a.html
footprint MP05A_N (SOT223, 5-Leads, Body 6.5x3.5mm, Pitch 1.5mm, Lead Span 7mm, IPC Medium Density)
footprint MP05A_L (SOT223, 5-Leads, Body 6.5x3.5mm, Pitch 1.5mm, Lead Span 7mm, IPC High Density)
footprint MP05A_M (SOT223, 5-Leads, Body 6.5x3.5mm, Pitch 1.5mm, Lead Span 7mm, IPC Low Density)
pins: 1 ~{SD} (in), 2 IN (power), 3 OUT (power), 4 SNS (in), 5 GND (power)

## LP3874EMP-5.0
designator U?
0.8A Fast Ultra Low Dropout Linear Regulators; PartNumber: LP3874EMP-5.0; Manufacturer: National Semiconductor; CompType: LDO IC; PackageTopMarking: XYTT*LHJB; Published: 4-Dec-2008; DatasheetVersion: Sep-2006; PackageVersion: revA, Jan-2000; PackageReference: MP05A; Publisher: Altium Limited; PackageDescription: Moldec SOT-223, 6.50 x 3.56 x 1.6mm Body, 5 Lead, 1.5mm Pitch; RoHS: Y; PinCount: 5; DigiKeyPartNumber: LP3874EMP-5.0CT-ND; Code_JEDEC: TO-261-AB; Code_IPC: SOT223-5; ComponentLink1Description: LP3874 Datasheet; ComponentLink1URL: http://www.national.com/ds/LP/LP3874.pdf; ComponentLink2Description: LP3874 Web Page; ComponentLink2URL: http://www.national.com/pf/LP/LP3874.html; ComponentLink3Description: MP05A Package Page; ComponentLink3URL: http://www.national.com/packaging/folders/mp05a.html
footprint MP05A_N (SOT223, 5-Leads, Body 6.5x3.5mm, Pitch 1.5mm, Lead Span 7mm, IPC Medium Density)
footprint MP05A_L (SOT223, 5-Leads, Body 6.5x3.5mm, Pitch 1.5mm, Lead Span 7mm, IPC High Density)
footprint MP05A_M (SOT223, 5-Leads, Body 6.5x3.5mm, Pitch 1.5mm, Lead Span 7mm, IPC Low Density)
pins: 1 ~{SD} (in), 2 IN (power), 3 OUT (power), 4 SNS (in), 5 GND (power)

## LP3874EMP-ADJ
designator U?
0.8A Fast Ultra Low Dropout Linear Regulators; PartNumber: LP3874EMP-ADJ; Manufacturer: National Semiconductor; CompType: LDO IC; PackageTopMarking: XYTT*LHKB; Published: 4-Dec-2008; DatasheetVersion: Oct-2006; PackageVersion: revA, Jan-2000; PackageReference: MP05A; Publisher: Altium Limited; PackageDescription: Moldec SOT-223, 6.50 x 3.56 x 1.6mm Body, 5 Lead, 1.5mm Pitch; RoHS: Y; PinCount: 5; DigiKeyPartNumber: LP3874EMP-ADJCT-ND; Code_JEDEC: TO-261-AB; Code_IPC: SOT223-5; ComponentLink1Description: LP3874-ADJ Datasheet; ComponentLink1URL: http://www.national.com/ds/LP/LP3874-ADJ.pdf; ComponentLink2Description: LP3874-ADJ Web Page; ComponentLink2URL: http://www.national.com/pf/LP/LP3874-ADJ.html; ComponentLink3Description: MP05A Package Page; ComponentLink3URL: http://www.national.com/packaging/folders/mp05a.html
footprint MP05A_N (SOT223, 5-Leads, Body 6.5x3.5mm, Pitch 1.5mm, Lead Span 7mm, IPC Medium Density)
footprint MP05A_L (SOT223, 5-Leads, Body 6.5x3.5mm, Pitch 1.5mm, Lead Span 7mm, IPC High Density)
footprint MP05A_M (SOT223, 5-Leads, Body 6.5x3.5mm, Pitch 1.5mm, Lead Span 7mm, IPC Low Density)
pins: 1 ~{SD} (in), 2 IN (power), 3 OUT (power), 4 ADJ (in), 5 GND (power)

## LP3874ES-1.8
designator U?
0.8A Fast Ultra Low Dropout Linear Regulators; PartNumber: LP3874ES-1.8; Manufacturer: National Semiconductor; CompType: LDO IC; PackageTopMarking: NSUZXYTTE#*LP3874ES*-1.8; Published: 4-Dec-2008; DatasheetVersion: Sep-2006; PackageVersion: revD, Apr-2005; PackageReference: TS5B; Publisher: Altium Limited; PackageDescription: TO-263, Molded, .400 x .390 x .180in, 5 Lead, .067in Pitch, Surface Mount; RoHS: O; PinCount: 5; DigiKeyPartNumber: LP3874ES-1.8-ND; Code_JEDEC: MO-169-AB; ComponentLink1Description: LP3874 Datasheet; ComponentLink1URL: http://www.national.com/ds/LP/LP3874.pdf; ComponentLink2Description: LP3874 Web Page; ComponentLink2URL: http://www.national.com/pf/LP/LP3874.html; ComponentLink3Description: TS5B Package Page; ComponentLink3URL: http://www.national.com/packaging/folders/ts5b.html
footprint TS5B_N (D2-PAK, 6-Leads, Body 8.6x10.2mm, Pitch 1.7mm, Lead Span 14.1mm, IPC Medium Density)
footprint TS5B_L (D2-PAK, 6-Leads, Body 8.6x10.2mm, Pitch 1.7mm, Lead Span 14.1mm, IPC High Density)
footprint TS5B_M (D2-PAK, 6-Leads, Body 8.6x10.2mm, Pitch 1.7mm, Lead Span 14.1mm, IPC Low Density)
pins: 1 ~{SD} (in), 2 IN (power), 3 GND (power), 4 OUT (power), 5 SNS (in), 6 TAB (power)

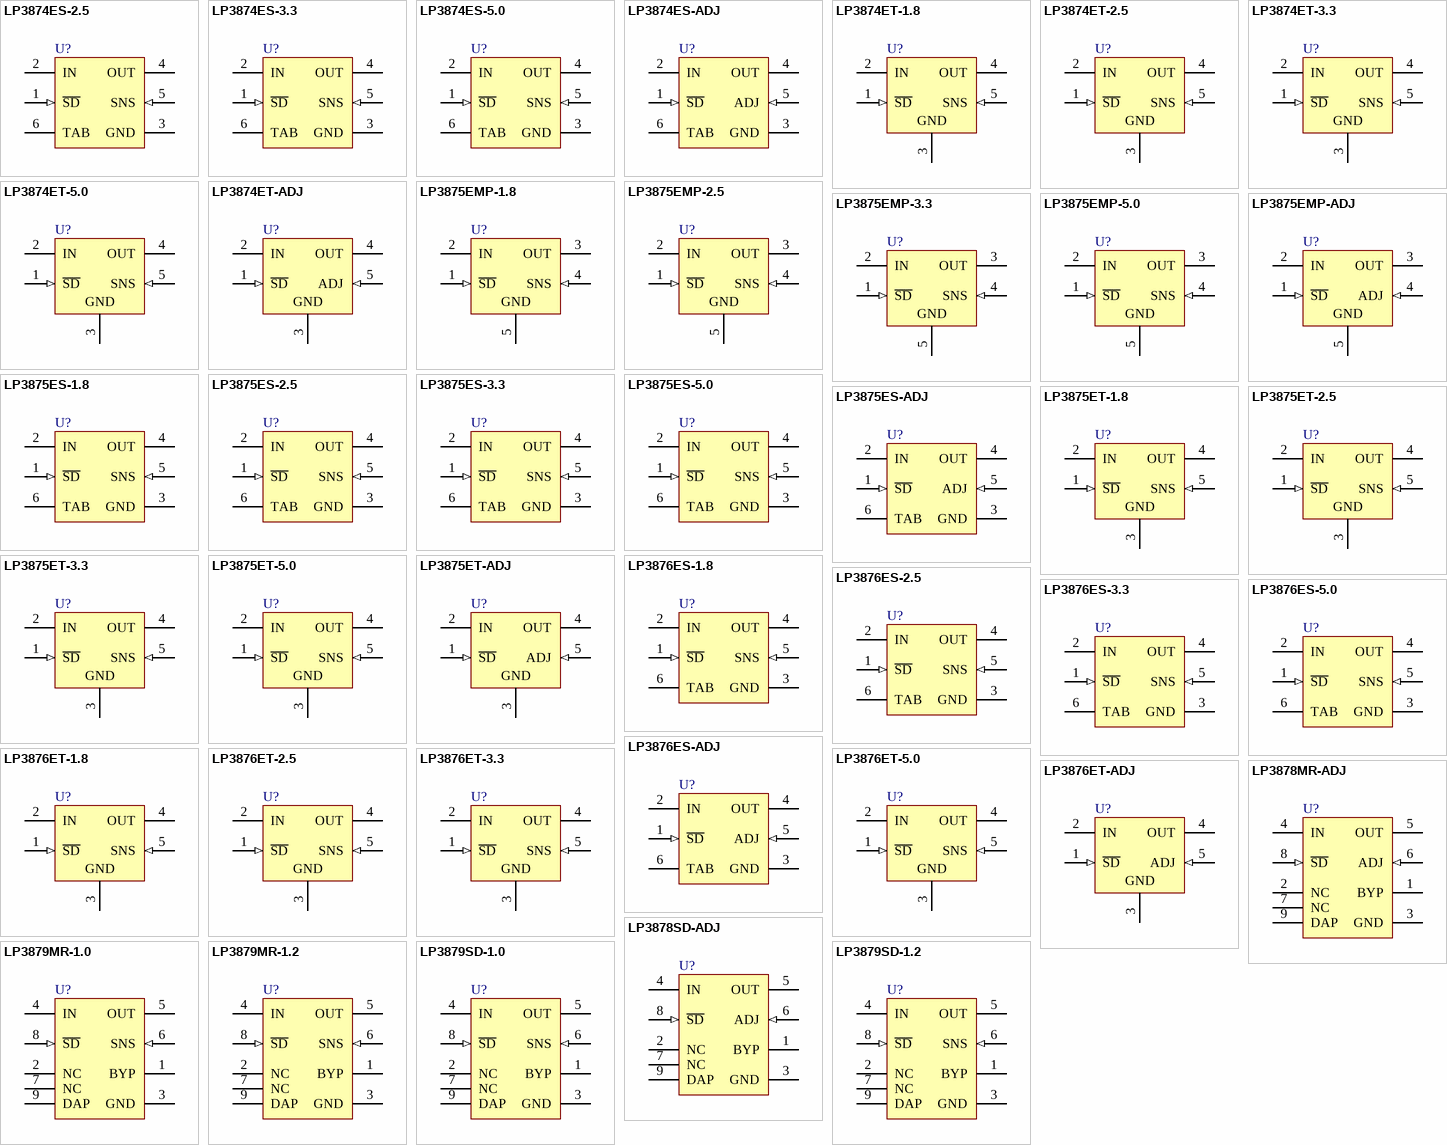
[diagram p18: symbols LP3874ES-2.5 to LP3879SD-1.2]

## LP3874ES-2.5
designator U?
0.8A Fast Ultra Low Dropout Linear Regulators; PartNumber: LP3874ES-2.5; Manufacturer: National Semiconductor; CompType: LDO IC; PackageTopMarking: NSUZXYTTE#*LP3874ES*-2.5; Published: 4-Dec-2008; DatasheetVersion: Sep-2006; PackageVersion: revD, Apr-2005; PackageReference: TS5B; Publisher: Altium Limited; PackageDescription: TO-263, Molded, .400 x .390 x .180in, 5 Lead, .067in Pitch, Surface Mount; RoHS: O; PinCount: 5; DigiKeyPartNumber: LP3874ES-2.5-ND; Code_JEDEC: MO-169-AB; ComponentLink1Description: LP3874 Datasheet; ComponentLink1URL: http://www.national.com/ds/LP/LP3874.pdf; ComponentLink2Description: LP3874 Web Page; ComponentLink2URL: http://www.national.com/pf/LP/LP3874.html; ComponentLink3Description: TS5B Package Page; ComponentLink3URL: http://www.national.com/packaging/folders/ts5b.html
footprint TS5B_N (D2-PAK, 6-Leads, Body 8.6x10.2mm, Pitch 1.7mm, Lead Span 14.1mm, IPC Medium Density)
footprint TS5B_L (D2-PAK, 6-Leads, Body 8.6x10.2mm, Pitch 1.7mm, Lead Span 14.1mm, IPC High Density)
footprint TS5B_M (D2-PAK, 6-Leads, Body 8.6x10.2mm, Pitch 1.7mm, Lead Span 14.1mm, IPC Low Density)
pins: 1 ~{SD} (in), 2 IN (power), 3 GND (power), 4 OUT (power), 5 SNS (in), 6 TAB (power)

## LP3874ES-3.3
designator U?
0.8A Fast Ultra Low Dropout Linear Regulators; PartNumber: LP3874ES-3.3; Manufacturer: National Semiconductor; CompType: LDO IC; PackageTopMarking: NSUZXYTTE#*LP3874ES*-3.3; Published: 4-Dec-2008; DatasheetVersion: Sep-2006; PackageVersion: revD, Apr-2005; PackageReference: TS5B; Publisher: Altium Limited; PackageDescription: TO-263, Molded, .400 x .390 x .180in, 5 Lead, .067in Pitch, Surface Mount; RoHS: Y; PinCount: 5; DigiKeyPartNumber: LP3874ES-3.3-ND; Code_JEDEC: MO-169-AB; ComponentLink1Description: LP3874 Datasheet; ComponentLink1URL: http://www.national.com/ds/LP/LP3874.pdf; ComponentLink2Description: LP3874 Web Page; ComponentLink2URL: http://www.national.com/pf/LP/LP3874.html; ComponentLink3Description: TS5B Package Page; ComponentLink3URL: http://www.national.com/packaging/folders/ts5b.html
footprint TS5B_N (D2-PAK, 6-Leads, Body 8.6x10.2mm, Pitch 1.7mm, Lead Span 14.1mm, IPC Medium Density)
footprint TS5B_L (D2-PAK, 6-Leads, Body 8.6x10.2mm, Pitch 1.7mm, Lead Span 14.1mm, IPC High Density)
footprint TS5B_M (D2-PAK, 6-Leads, Body 8.6x10.2mm, Pitch 1.7mm, Lead Span 14.1mm, IPC Low Density)
pins: 1 ~{SD} (in), 2 IN (power), 3 GND (power), 4 OUT (power), 5 SNS (in), 6 TAB (power)

## LP3874ES-5.0
designator U?
0.8A Fast Ultra Low Dropout Linear Regulators; PartNumber: LP3874ES-5.0; Manufacturer: National Semiconductor; CompType: LDO IC; PackageTopMarking: NSUZXYTTE#*LP3874ES*-5.0; Published: 4-Dec-2008; DatasheetVersion: Sep-2006; PackageVersion: revD, Apr-2005; PackageReference: TS5B; Publisher: Altium Limited; PackageDescription: TO-263, Molded, .400 x .390 x .180in, 5 Lead, .067in Pitch, Surface Mount; RoHS: Y; PinCount: 5; DigiKeyPartNumber: LP3874ES-5.0-ND; Code_JEDEC: MO-169-AB; ComponentLink1Description: LP3874 Datasheet; ComponentLink1URL: http://www.national.com/ds/LP/LP3874.pdf; ComponentLink2Description: LP3874 Web Page; ComponentLink2URL: http://www.national.com/pf/LP/LP3874.html; ComponentLink3Description: TS5B Package Page; ComponentLink3URL: http://www.national.com/packaging/folders/ts5b.html
footprint TS5B_N (D2-PAK, 6-Leads, Body 8.6x10.2mm, Pitch 1.7mm, Lead Span 14.1mm, IPC Medium Density)
footprint TS5B_L (D2-PAK, 6-Leads, Body 8.6x10.2mm, Pitch 1.7mm, Lead Span 14.1mm, IPC High Density)
footprint TS5B_M (D2-PAK, 6-Leads, Body 8.6x10.2mm, Pitch 1.7mm, Lead Span 14.1mm, IPC Low Density)
pins: 1 ~{SD} (in), 2 IN (power), 3 GND (power), 4 OUT (power), 5 SNS (in), 6 TAB (power)